# EAGLE library part SPIBUS (library ads)
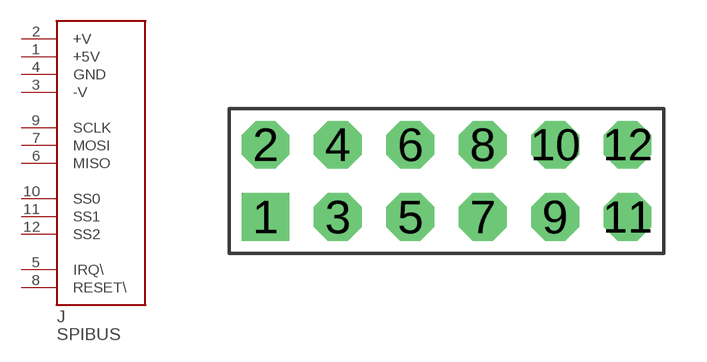
[diagram p10: symbol with the pads of CON12P2R; footprint CON12P2R]

Designator prefix J

## SPIBUS  [CON12P2R]
1  +5V  pwr
2  +V  pwr
3  -V  pwr
4  GND  pwr
5  IRQ\
6  MISO
7  MOSI
8  RESET\
9  SCLK
10  SS0
11  SS1
12  SS2

## Footprint CON12P2R (pad centres in mm)
drill 1.016 pad 1.676 square: 1 -6.35,-1.27
drill 1.016 pad 1.676 octagon: 2 -6.35,1.27; 3 -3.81,-1.27; 4 -3.81,1.27; 5 -1.27,-1.27; 6 -1.27,1.27; 7 1.27,-1.27; 8 1.27,1.27; 9 3.81,-1.27; 10 3.81,1.27; 11 6.35,-1.27; 12 6.35,1.27